# EAGLE library part BALUN433 (library SCORCH)
433MHz BALUN for CC430, CC1101 http://onecall.farnell.com/johanson-technology/0433bm15a0001e/balun-433mhz-impedance-matched/dp/2148531 http://www.farnell.com/datasheets/1643108.pdfhttp://www.farnell.com/datasheets/1643108.pdf
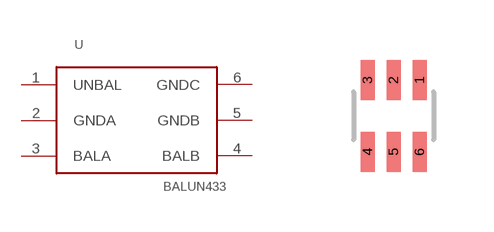
[diagram p1: symbol with the pads of BALUN; footprint BALUN]

Designator prefix -

## BALUN433  [BALUN]
1  UNBAL
2  GNDA
3  BALA
4  BALB
5  GNDB
6  GNDC

## Footprint BALUN (pad centres in mm)
smd 0.35 x 1: 1 0.65,0.9; 2 0,0.9; 3 -0.65,0.9; 4 -0.65,-0.9; 5 0,-0.9; 6 0.65,-0.9